# Altium footprint library SparkFun-Resistors.PCBLIB: 4 footprints
Each footprint in its own frame and in the unit in brackets; x right, y up, seen from the top. Pads: shape width x height; smd on the part's side, far side on the other; paste and mask are expansions set on the pad; w line width, h text height; cw(c..) or ccw(c..) is an arc to the next point about the centre after c.
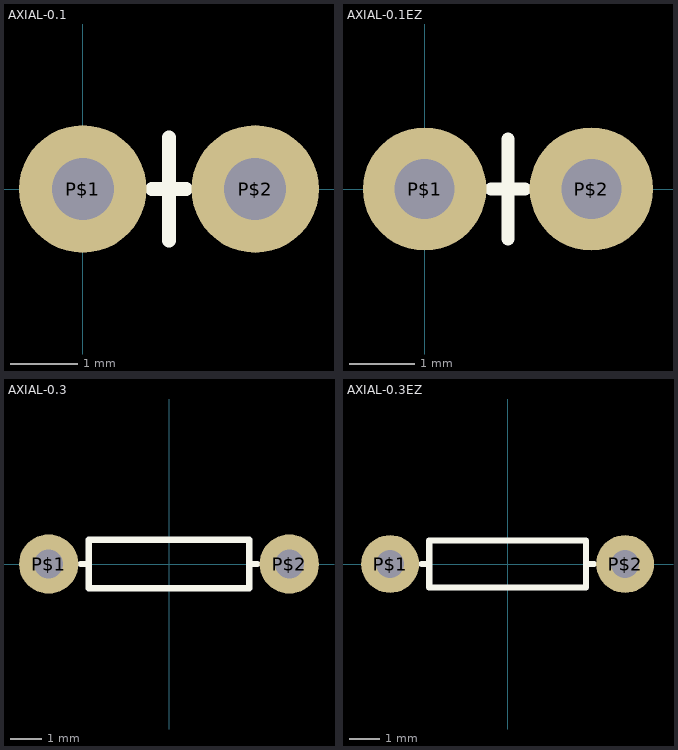
[diagram p0: the footprints below, top view; thin cyan lines are the x and y axes]

## AXIAL-0.1 [mil]
pads (2):
  round 74 hole 36: P$1(0,0) P$2(100,0)
Top Overlay:
  lines w8: 40,0 50,0 ; 50,-30 50,0 ; 50,30 50,0 ; 60,0 50,0

## AXIAL-0.1EZ [mil]
pads (2):
  round 74 hole 36: P$1(0,0) P$2(100,0)
Top Overlay:
  lines w8: 40,0 50,0 ; 50,-30 50,0 ; 50,30 50,0 ; 60,0 50,0
Top Solder:
  circle w0: c0,0 r18
  circle w0: c0,0 r18
  circle w0: c100,0 r18
Bottom Solder:
  circle w0: c0,0 r40
  circle w0: c100,0 r40

## AXIAL-0.3 [mil]
pads (2):
  round 74 hole 36: P$1(-150,0) P$2(150,0)
Top Overlay:
  lines w8: -110,0 -100,0 ; 110,0 100,0 ; -100,0 -100,-30 100,-30 100,0 ; -100,0 -100,30 100,30 100,0

## AXIAL-0.3EZ [mil]
pads (2):
  round 74 hole 36: P$1(-150,0) P$2(150,0)
Top Overlay:
  lines w8: -110,0 -100,0 ; 110,0 100,0 ; -100,0 -100,-30 100,-30 100,0 ; -100,0 -100,30 100,30 100,0
Top Solder:
  circle w0: c-150,0 r20
  circle w0: c150,0 r21
Bottom Solder:
  circle w0: c-150,0 r41
  circle w0: c150,0 r42